# Altium footprint library opto-honeywell.PCBLIB: 39 footprints (part 3 of 3)
Each footprint in its own frame and in the unit in brackets; x right, y up, seen from the top. Pads: shape width x height; smd on the part's side, far side on the other; paste and mask are expansions set on the pad; w line width, h text height; cw(c..) or ccw(c..) is an arc to the next point about the centre after c.
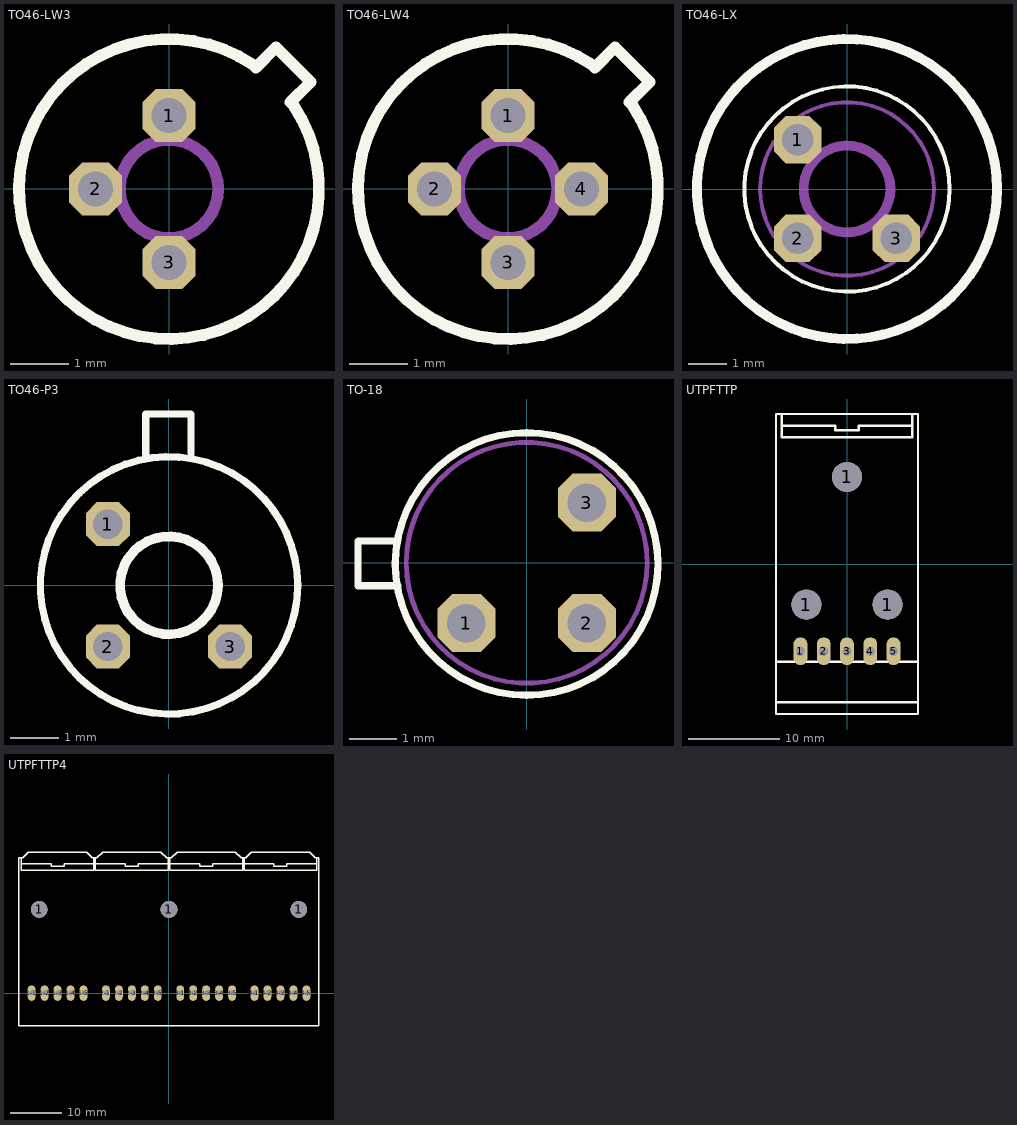
[diagram p2: the footprints below, top view; thin cyan lines are the x and y axes]

## TO46-LW3 [mil]
pads (3):
  oct 36x36 hole 24: 1(0,50) 2(-50,0) 3(0,-50)
Top Overlay:
  lines w8: 57.09,84.65 ccw(c0,0) 84.65,57.09 ; 59.06,82.68 72.83,96.46 96.46,72.83 82.68,59.06
Mechanical 16:
  circle w8: c0,0 r33.46

## TO46-LW4 [mil]
pads (4):
  oct 36x36 hole 24: 1(0,50) 2(-50,0) 3(0,-50) 4(50,0)
Top Overlay:
  lines w8: 57.09,84.65 ccw(c0,0) 84.65,57.09 ; 59.06,82.68 72.83,96.46 96.46,72.83 82.68,59.06
Mechanical 16:
  circle w8: c0,0 r33.46

## TO46-LX [mil]
pads (3):
  oct 48x48 hole 32: 1(-50,50) 2(-50,-50) 3(50,-50)
Top Overlay:
  circle w4: c0,0 r104.02
  circle w10: c0,0 r152
Mechanical 16:
  circle w4: c0,0 r88
  circle w10: c0,0 r44

## TO46-P3 [mil]
pads (3):
  oct 36x36 hole 24: 1(-50,50) 2(-50,-50) 3(50,-50)
Top Overlay:
  circle w8: c0,0 r40
  circle w6: c0,0 r105.12
  lines w6: -19,107 -19,140 18,140 18,108

## TO-18 [mil]
pads (3):
  oct 48x48 hole 32: 1(-50,-50) 2(50,-50) 3(50,50)
Top Overlay:
  circle w6: c0,-1 r109
  lines w6: -108,18 -140,18 -140,-19 -107,-19
Mechanical 16:
  circle w4: c0,0 r100

## UTPFTTP [mil]
pads (8):
  oval 60x120 hole 40: 1(-200,-375) 2(-100,-375) 3(0,-375) 4(100,-375) 5(200,-375)
  round 129 hole 129: 1(-175,-175) 1(0,375) 1(175,-175)
Top Overlay:
  lines w10: -305,-595 -305,-420 ; -305,-595 -305,-645 305,-645 305,-595 ; -305,-595 305,-595 ; -305,-420 -305,645 -280,645 ; -305,-420 305,-420 ; -280,595 -280,545 280,545 280,595 ; -280,595 -50,595 -50,575 50,575 50,595 280,595 ; -280,595 -280,645 ; -280,645 280,645 ; 280,595 280,645 ; 280,645 305,645 305,-420 ; 305,-595 305,-420

## UTPFTTP4 [mil]
pads (23):
  round 129 hole 129: 1(-1000,644) 1(0,644) 1(1000,644)
  oval 60x120 hole 40: 1-1(-1058,0) 1-2(-958,0) 1-3(-858,0) 1-4(-758,0) 1-5(-658,0) 2-1(-486,0) 2-2(-386,0) 2-3(-286,0) 2-4(-186,0) 2-5(-86,0) 3-1(86,0) 3-2(186,0) 3-3(286,0) 3-4(386,0) 3-5(486,0) 4-1(658,0) 4-2(758,0) 4-3(858,0) 4-4(958,0) 4-5(1058,0)
Top Overlay:
  lines w10: -1138,1037.5 -1138,995 ; -578,1037.5 -578,995 ; -566,1037.5 -566,995 ; -6,1037.5 -6,995 ; 6,1037.5 6,995 ; 566,1037.5 566,995 ; 578,1037.5 578,995 ; 1138,1035 1138,995 ; -1138,995 -1138,945 -578,945 -578,995 ; -1138,995 -908,995 -908,975 -808,975 -808,995 -578,995 ; -566,995 -566,945 -6,945 -6,995 ; -566,995 -336,995 -336,975 -236,975 -236,995 -6,995 ; 6,995 6,945 566,945 566,995 ; 6,995 236,995 236,975 336,975 336,995 566,995 ; 578,995 578,945 1138,945 1138,995 ; 578,995 808,995 808,975 908,975 908,995 1138,995 ; -1155,-252.5 1155,-252.5 1155,1040 1127.5,1040 1082.5,1085 635,1085 590,1040 555,1040 510,1085 62.5,1085 17.5,1040 -17.5,1040 -62.5,1085 -510,1085 -555,1040 -590,1040 -635,1085 -1082.5,1085 -1127.5,1040 -1155,1040 -1155,-252.5